# EAGLE library part MCP2551 (library Bauteile)
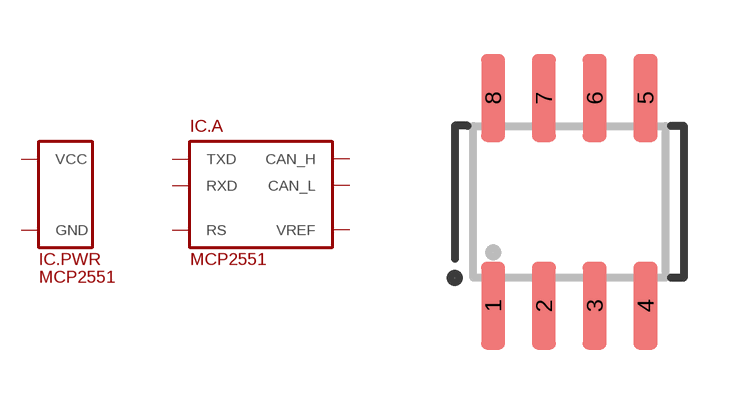
[diagram p11: symbol with the pads of SO8; footprint SO8]

Designator prefix IC; gates .PWR=SUPPLY_VCC/GND .A=MCP2551

## MCP2551(SO8)  [SO8]
1  .A:TXD
2  .PWR:GND
3  .PWR:VCC
4  .A:RXD
5  .A:VREF
6  .A:CAN_L
7  .A:CAN_H
8  .A:RS

## Footprint SO8 (pad centres in mm)
smd 0.6 x 2.2: 1 -1.905,-2.6; 2 -0.635,-2.6; 3 0.635,-2.6; 4 1.905,-2.6; 5 1.905,2.6; 6 0.635,2.6; 7 -0.635,2.6; 8 -1.905,2.6